# Altium footprint library PcbLib1.PcbLib: 19 footprints (part 2 of 2)
Each footprint in its own frame and in the unit in brackets; x right, y up, seen from the top. Pads: shape width x height; smd on the part's side, far side on the other; paste and mask are expansions set on the pad; w line width, h text height; cw(c..) or ccw(c..) is an arc to the next point about the centre after c.
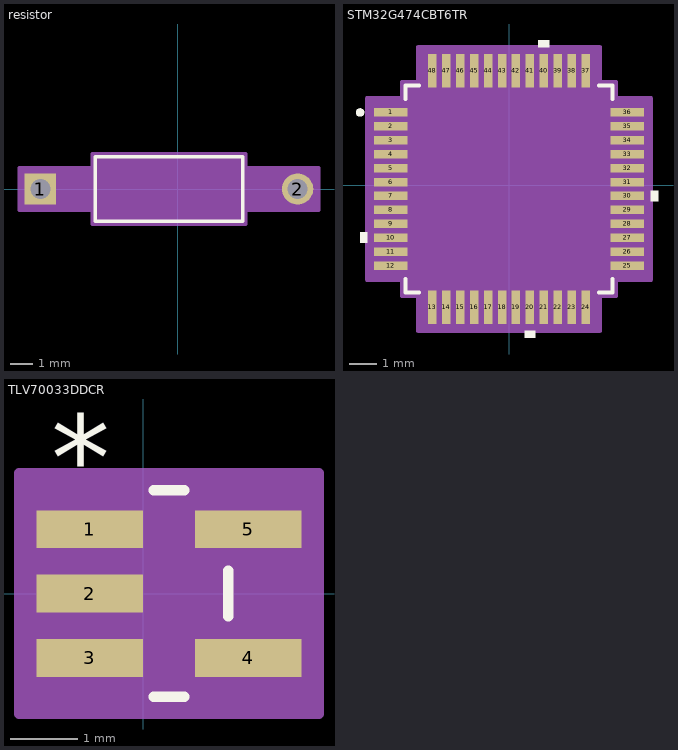
[diagram p1: the footprints below, top view; thin cyan lines are the x and y axes]

## resistor [mil]
pads (2):
  rect 55x55 / inner round 60 / far side rect 55x55 hole 35 paste-99999 mask+0: 1(-240,0)
  round 55 / inner round 60 / far side round 55 hole 35 paste-99999 mask+0: 2(210,0)
Top Overlay:
  lines w6: -144,-56.5 -144,56.5 114,56.5 114,-56.5 -144,-56.5
Mechanical 13:
  lines w1: -240,0 -139,0 ; 109,0 210,0 ; -139,-51.5 -139,51.5 109,51.5 109,-51.5 -139,-51.5
Mechanical 15:
  region: -149,-37.5 -277.5,-37.5 -277.5,37.5 -149,37.5 -149,61.5 119,61.5 119,37.5 247.5,37.5 247.5,-37.5 119,-37.5 119,-61.5 -149,-61.5
  lines w6: -277.5,-37.5 -149,-37.5 -149,-61.5 119,-61.5 119,-37.5 247.5,-37.5 247.5,37.5 119,37.5 119,61.5 -149,61.5 -149,37.5 -277.5,37.5 -277.5,-37.5
3D body "STA_CF14_STP.step": height 103, standoff -110, extent -252.48,-51.12 222.48,51.12

## STM32G474CBT6TR [mil]
pads (48):
  rect 47x12 smd paste+0 mask+0: 1(-167.32,103.27) 2(-167.32,83.58) 3(-167.32,63.9) 4(-167.32,44.21) 5(-167.32,24.53) 6(-167.32,4.84) 7(-167.32,-14.84) 8(-167.32,-34.53) 9(-167.32,-54.21) 10(-167.32,-73.9) 11(-167.32,-93.58) 12(-167.32,-113.27) 25(167.32,-113.27) 26(167.32,-93.58) 27(167.32,-73.9) 28(167.32,-54.21) 29(167.32,-34.53) 30(167.32,-14.84) 31(167.32,4.84) 32(167.32,24.53) 33(167.32,44.21) 34(167.32,63.9) 35(167.32,83.58) 36(167.32,103.27)
  rect 12x47 smd paste+0 mask+0: 13(-108.27,-172.32) 14(-88.58,-172.32) 15(-68.9,-172.32) 16(-49.21,-172.32) 17(-29.53,-172.32) 18(-9.84,-172.32) 19(9.84,-172.32) 20(29.53,-172.32) 21(49.21,-172.32) 22(68.9,-172.32) 23(88.58,-172.32) 24(108.27,-172.32) 37(108.27,162.32) 38(88.58,162.32) 39(68.9,162.32) 40(49.21,162.32) 41(29.53,162.32) 42(9.84,162.32) 43(-9.84,162.32) 44(-29.53,162.32) 45(-49.21,162.32) 46(-68.9,162.32) 47(-88.58,162.32) 48(-108.27,162.32)
Top Overlay:
  circle w6: c-210.67,103.27 r3
  region: 56.71,195.82 41.71,195.82 41.71,205.82 56.71,205.82
  region: 200.82,-7.34 210.82,-7.34 210.82,-22.34 200.82,-22.34
  region: 37.03,-205.82 22.03,-205.82 22.03,-215.82 37.03,-215.82
  region: -200.82,-66.4 -210.82,-66.4 -210.82,-81.4 -200.82,-81.4
  lines w6: -146.5,-132.37 -146.5,-151.5 -127.37,-151.5 ; -146.5,122.37 -146.5,141.5 -127.37,141.5 ; 127.37,-151.5 146.5,-151.5 146.5,-132.37 ; 127.37,141.5 146.5,141.5 146.5,122.37
  text ".Designator" at -137.5,-30 h50
Mechanical 13:
  circle w1: c-118.82,103.27 r3
  lines w1: -141.5,86.5 -91.5,136.5 ; -141.5,-146.5 -141.5,136.5 141.5,136.5 141.5,-146.5 -141.5,-146.5
  text ".Designator" at -137.5,-30 h50
Mechanical 15:
  region: -128.27,-156.5 -151.5,-156.5 -151.5,-133.27 -200.82,-133.27 -200.82,123.27 -151.5,123.27 -151.5,146.5 -128.27,146.5 -128.27,195.82 128.27,195.82 128.27,146.5 151.5,146.5 151.5,123.27 200.82,123.27 200.82,-133.27 151.5,-133.27 151.5,-156.5 128.27,-156.5 128.27,-205.82 -128.27,-205.82
  lines w6: -200.82,-133.27 -200.82,123.27 -151.5,123.27 -151.5,146.5 -128.27,146.5 -128.27,195.82 128.27,195.82 128.27,146.5 151.5,146.5 151.5,123.27 200.82,123.27 200.82,-133.27 151.5,-133.27 151.5,-156.5 128.27,-156.5 128.27,-205.82 -128.27,-205.82 -128.27,-156.5 -151.5,-156.5 -151.5,-133.27 -200.82,-133.27
3D body "LQFP48-7x7mm.step": height 63.11, standoff 0, extent -177.05,-182.05 177.05,172.05

## TLV70033DDCR [mil]
pads (5):
  rect 62x22 smd paste-31 mask-31: 1(-31,37.4) 2(-31,0) 3(-31,-37.4) 4(61,-37.4) 5(61,37.4)
Top Overlay:
  lines w6: 6.09,-60 23.91,-60 ; 6.09,60 23.91,60 ; 49.5,-13.3 49.5,13.3
  text "*" at -53.5,54.4 h50
  text ".Designator" at -122.5,-25 h50
Mechanical 13:
  lines w1: 3,60 ccw(c15,60) 27,60 ; -45,-47.4 -45,-27.4 -19.5,-27.4 -19.5,-47.4 -45,-47.4 ; -45,-10 -45,10 -19.5,10 -19.5,-10 -45,-10 ; -45,27.4 -45,47.4 -19.5,47.4 -19.5,27.4 -45,27.4 ; -19.5,-60 -19.5,60 49.5,60 49.5,-60 -19.5,-60 ; 49.5,-47.4 49.5,-27.4 75,-27.4 75,-47.4 49.5,-47.4 ; 49.5,27.4 49.5,47.4 75,47.4 75,27.4 49.5,27.4
  text "*" at -53.5,54.4 h50
  text ".Designator" at -122.5,-25 h50
Mechanical 15:
  region: 102,-70 -72,-70 -72,70 102,70
  lines w6: -72,-70 -72,70 102,70 102,-70 -72,-70
3D body "DDC5.step": height 43.11, standoff 0, extent -45,-60 75,60